# Altium schematic symbol library MCP2518FDT-E_SL.SchLib: 2 symbols
Pins are listed as number, name and electrical type; pins without a type are passive.

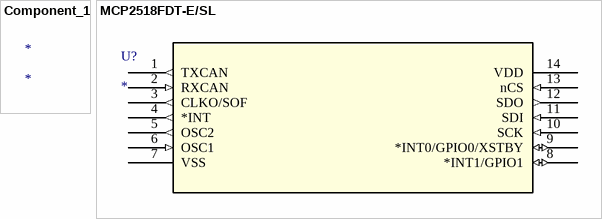
[diagram p0: symbols Component_1 to MCP2518FDT-E/SL]

## Component_1
designator *

## MCP2518FDT-E/SL
designator U?
No Description Available; Mfr_Name: Microchip; Digi-Key_Part_Number_3: MCP2518FDT-E/SLDKR-ND; Digi-Key_Part_Number_2: MCP2518FDT-E/SLCT-ND; Digi-Key_Part_Number_1: MCP2518FDT-E/SLTR-ND; RefDes: RefDes; Type: Type
footprint SOIC14_SL_MCH
pins: 1 TXCAN (out), 2 RXCAN (in), 3 CLKO/SOF (out), 4 *INT (out), 5 OSC2 (out), 6 OSC1 (in), 7 VSS (power), 8 *INT1/GPIO1 (io), 9 *INT0/GPIO0/XSTBY (io), 10 SCK (in), 11 SDI (in), 12 SDO (out), 13 nCS (in), 14 VDD (power)